# Altium footprint library rest.PCBLIB: 42 footprints (part 2 of 3)
Each footprint in its own frame and in the unit in brackets; x right, y up, seen from the top. Pads: shape width x height; smd on the part's side, far side on the other; paste and mask are expansions set on the pad; w line width, h text height; cw(c..) or ccw(c..) is an arc to the next point about the centre after c.
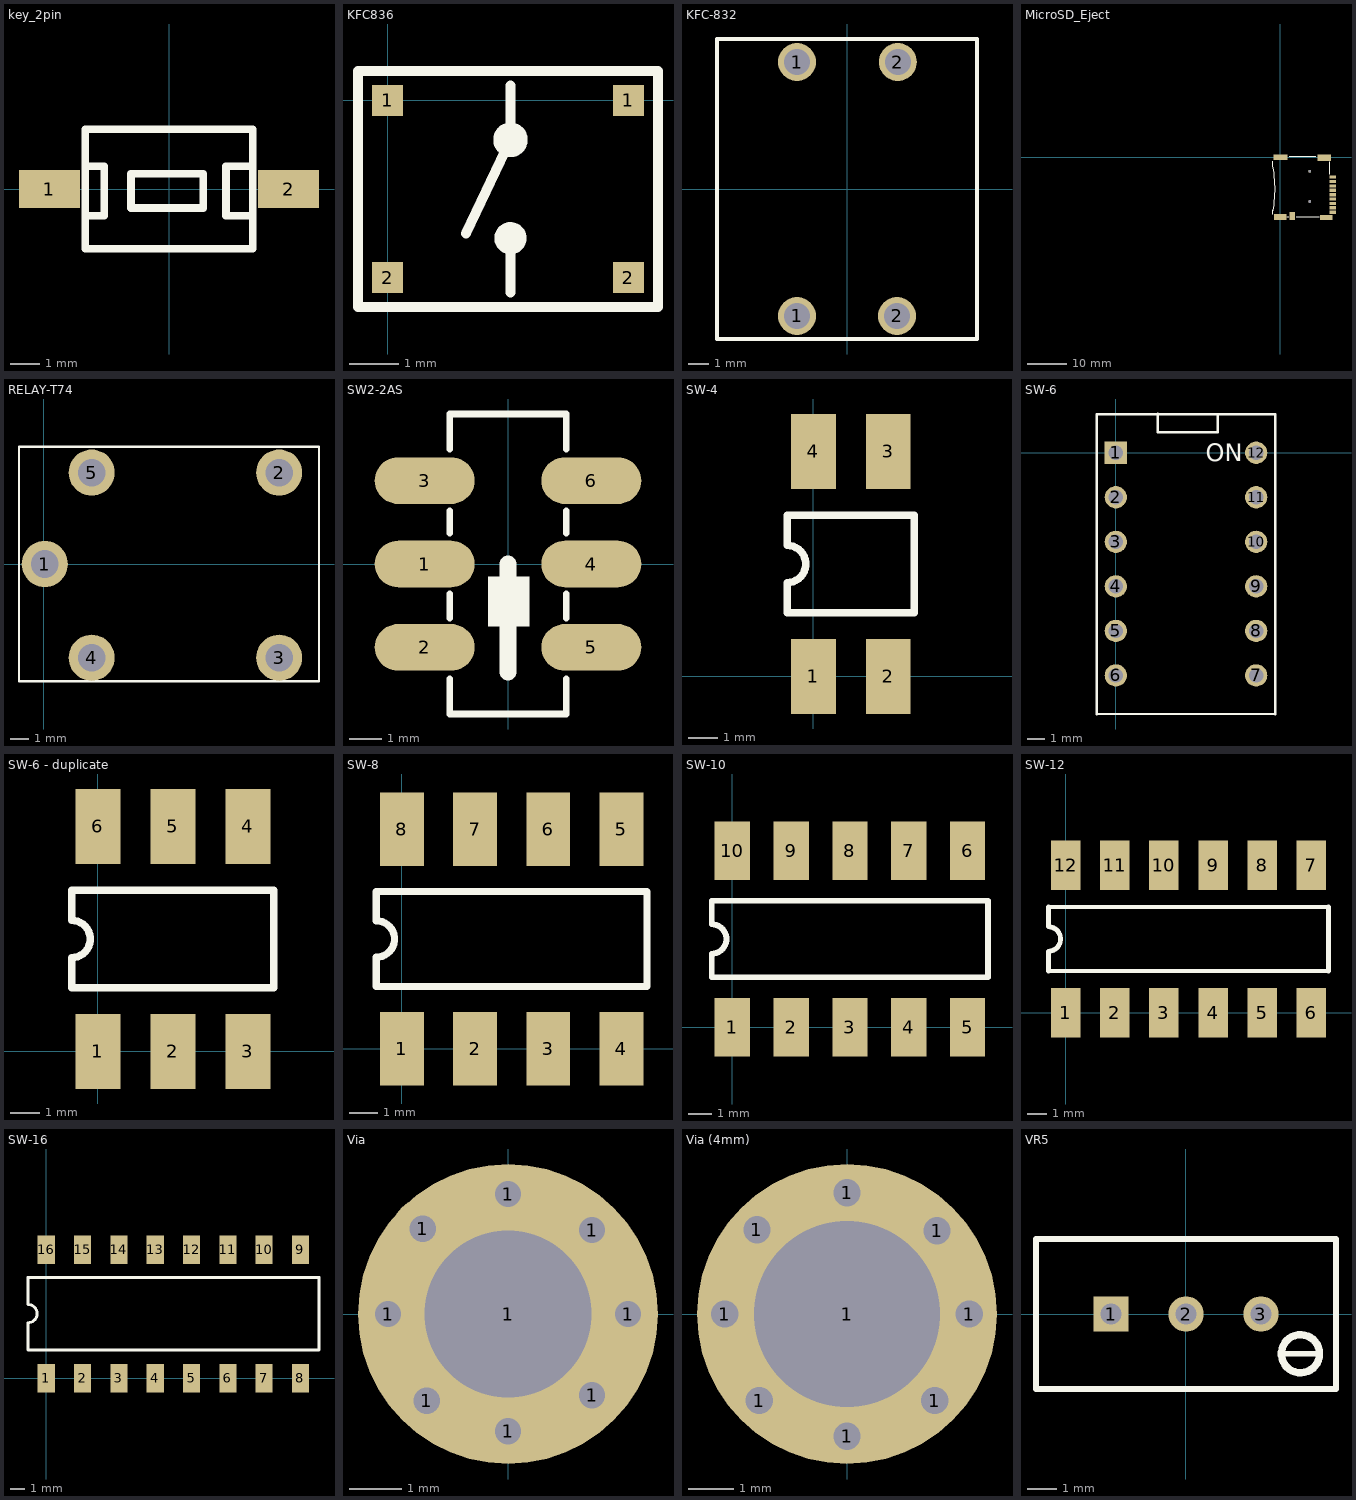
[diagram p1: the footprints below, top view; thin cyan lines are the x and y axes]

## key_2pin [mil]
pads (2):
  rect 80x50 smd: 1(-157.48,0) 2(157.48,0)
TopOverlay:
  lines w10: -110.24,-35 -85,-35 -85,30 -110.24,30 ; 110.24,-35 75,-35 75,30 110.24,30 ; -110.24,-78.74 -110.24,78.74 110.24,78.74 110.24,-78.74 -110.24,-78.74 ; -50,-25 45,-25 45,20 -50,20 -50,-25

## KFC836 [mm]
pads (4):
  rect 0.635x0.635 smd: 1(0,0) 1(4.9,0) 2(0,-3.6) 2(4.9,-3.6)
TopOverlay:
  circle w0.254: c2.5,-2.8 r0.2
  circle w0.254: c2.5,-0.8 r0.224
  lines w0.203: 1.6,-2.7 2.5,-0.8 2.5,0.3 ; 2.5,-3.9 2.5,-2.8 ; -0.6,-4.2 -0.6,0.6 5.5,0.6 5.5,-4.2 -0.6,-4.2

## KFC-832 [mm] "微动开关"
pads (4):
  round 1.9 hole 1.3: 1(-2.5,-6.35) 1(-2.5,6.35) 2(2.5,-6.35) 2(2.54,6.35)
TopOverlay:
  lines w0.203: -6.5,-7.5 6.5,-7.5 6.5,7.5 -6.5,7.5 -6.5,-7.5

## MicroSD_Eject [mm]
pads (16):
  round 0.7 hole 0.7 unplated: 0(7.417,-11.131) 0(7.417,-3.581)
  rect 1.6x0.8 smd: 1(13.217,-5.056) 2(13.217,-6.156) 3(13.217,-7.256) 4(13.217,-8.356) 5(13.217,-9.456) 6(13.217,-10.556) 7(13.217,-11.656) 8(13.217,-12.756)
  rect 1.6x0.85 smd: 9(13.217,-13.906)
  rect 1.4x1.95 smd: 10(3.017,-14.806)
  rect 3.5x1.6 smd: G1(11.067,-0.181)
  rect 3.1x1.5 smd: G2(0.067,-15.031)
  rect 3.5x1.4 smd: G3(0.067,-0.081)
  rect 3.1x1.2 smd: G4(11.567,-15.181)
TopOverlay:
  lines w0.127: -1.859,-1.046 -1.854,-1.041 -1.854,-2.311 ; -1.854,-14.376 -1.854,-13.319 ; -1.823,-13.753 ccw(c-31.271,-8.029) -1.823,-2.305 ; 1.702,-15.011 2.21,-15.011 ; 2.337,0.229 8.941,0.229 ; 3.988,-15.011 9.83,-15.011 ; 12.492,-4.381 12.492,-1.656 12.492,-1.231

## RELAY-T74 [mm]
pads (5):
  round 2.5 hole 1.5: 1(0.051,0) 2(12.751,4.953) 3(12.751,-5.08) 4(2.591,-5.08) 5(2.591,4.953)
TopOverlay:
  lines w0.127: -1.346,-6.35 -1.346,6.35 14.91,6.35 14.91,-6.35 -1.346,-6.35

## SW2-2AS [mil]
pads (6):
  oval 120x56 smd: 1(-100,0) 2(-100,-100) 3(-100,100) 4(100,0) 5(100,-100) 6(100,100)
TopOverlay:
  region: -24,-15 -24,-75 26,-75 26,-15
  lines w8: -70,-138 -70,-180 70,-180 70,-138 ; -70,-65 -70,-36 ; -70,37 -70,64 ; -70,138 -70,180 70,180 70,138 ; 70,-65 70,-36 ; 70,37 70,64
  lines w20: 0,-130 0,0

## SW-4 [mil]
pads (4):
  rect 60x100 smd: 1(0,0) 2(100,0) 3(100,300) 4(0,300)
TopOverlay:
  lines w10: -35,85 135,85 135,215 -35,215 -35,175 cw(c-35,150) -35,125 -35,85

## SW-6 [mil]
pads (12):
  rect 50x50 hole 32: 1(0,0)
  round 50 hole 32: 2(0,-100) 3(0,-200) 4(0,-300) 5(0,-400) 6(0,-500) 7(314.96,-500) 8(314.96,-400) 9(314.96,-300) 10(314.96,-200) 11(314.96,-100) 12(314.96,0)
TopOverlay:
  lines w3.94: -43.31,-586.61 358.27,-586.61
  lines w5.91: -43.31,-586.61 -43.31,86.61 358.27,86.61 358.27,-586.61 ; 94,87 94,46 229,46 229,86.61
  text "ON" at 202,-19 h39.37
3D body: height 244.09, standoff 0, extent -43,-587 358,86
3D body: height 255.91, standoff 0, extent 96,-515 230,-483
3D body: height 255.91, standoff 0, extent 96,-418 230,-386
3D body: height 255.91, standoff 0, extent 96,-317 230,-285
3D body: height 255.91, standoff 0, extent 96,-215 230,-183
3D body: height 255.91, standoff 0, extent 96,-117 230,-85
3D body: height 255.91, standoff 0, extent 95,-16 229,16

## SW-6 - duplicate [mil]
pads (6):
  rect 60x100 smd: 1(0,0) 2(100,0) 3(200,0) 4(200,300) 5(100,300) 6(0,300)
TopOverlay:
  lines w10: -35,85 -35,125 ccw(c-35,150) -35,175 -35,215 135,215 235,215 235,85 135,85 -35,85

## SW-8 [mil]
pads (8):
  rect 60x100 smd: 1(0,0) 2(100,0) 3(200,0) 4(300,0) 5(300,300) 6(200,300) 7(100,300) 8(0,300)
TopOverlay:
  lines w10: -35,85 335,85 335,215 -35,215 -35,175 cw(c-35,150) -35,125 -35,85

## SW-10 [mil]
pads (10):
  rect 60x100 smd: 1(0,0) 2(100,0) 3(200,0) 4(300,0) 5(400,0) 6(400,300) 7(300,300) 8(200,300) 9(100,300) 10(0,300)
TopOverlay:
  lines w10: -35,85 435,85 435,215 -35,215 -35,175 cw(c-35,150) -35,125 -35,85

## SW-12 [mil]
pads (12):
  rect 60x100 smd: 1(0,0) 2(100,0) 3(200,0) 4(300,0) 5(400,0) 6(500,0) 7(500,300) 8(400,300) 9(300,300) 10(200,300) 11(100,300) 12(0,300)
TopOverlay:
  lines w8: -35,85 535,85 ; -35,215 535,215
  lines w10: -35,85 -35,125 ccw(c-35,150) -35,175 -35,215 ; 535,85 535,215

## SW-16 [mm]
pads (16):
  rect 1.2x2 smd: 1(0,0) 2(2.54,0) 3(5.08,0) 4(7.62,0) 5(10.16,0) 6(12.7,0) 7(15.24,0) 8(17.78,0) 9(17.78,8.992) 10(15.24,8.992) 11(12.7,8.992) 12(10.16,8.992) 13(7.62,8.992) 14(5.08,8.992) 15(2.54,8.992) 16(0,8.992)
TopOverlay:
  lines w0.2: -1.27,1.981 -1.27,3.886 ccw(c-1.27,4.521) -1.27,5.156 -1.27,7.061 ; 19.075,1.981 19.075,7.061
  lines w0.203: -1.27,1.981 8.915,1.981 13.995,1.981 19.075,1.981 ; -1.27,7.061 8.915,7.061 13.995,7.061 19.075,7.061

## Via [mil]
pads (9):
  round 45 hole 19.68: 1(-90,0) 1(-64,64) 1(-61,-65) 1(0,-88) 1(0,90) 1(63,-61) 1(63,63) 1(90,0)
  round 225 hole 125: 1(0,0)

## Via (4mm) [mil]
pads (9):
  round 45 hole 23.62: 1(-106,0) 1(-78,73) 1(-76,-75) 1(0,-106) 1(0,105) 1(76,-75) 1(78,72) 1(106,0)
  round 259.84 hole 161.42: 1(0,0)

## VR5 [mm] "Thru-Hole; 3 Leads"
pads (3):
  rect 1.2x1.2 hole 0.7: 1(-2.54,0)
  round 1.2 hole 0.7: 2(0,0) 3(2.54,0)
TopOverlay:
  circle w0.254: c3.876,-1.346 r0.645
  lines w0.2: 3.2,-1.346 4.49,-1.346 ; -5.08,-2.54 -5.08,2.54 5.08,2.54 5.08,0 5.08,-2.54 -5.08,-2.54
3D body: height 10.5, standoff 0, extent 3.099,-2.108 4.648,-0.584
3D body: height 10, standoff 0, extent -5.055,-2.565 5.08,2.54